# EAGLE library part ADA4096-4 (library Custom_Library)
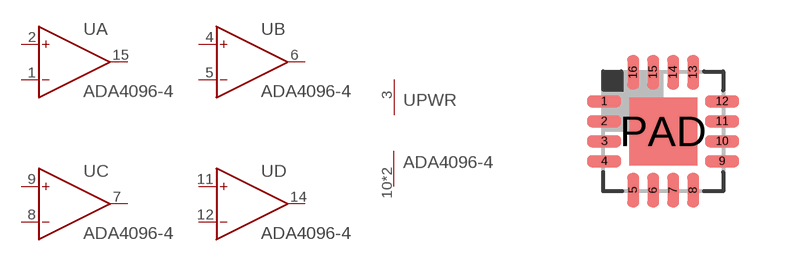
[diagram p8: symbol with the pads of QFN16; footprint QFN16]

Designator prefix -; gates A=OP B=OP C=OP D=OP PWR=PWR+-

## ADA4096-4  [QFN16]
1  A:IN-  in
2  A:IN+  in
3  PWR:V+  pwr
4  B:IN+  in
5  B:IN-  in
6  B:OUT  out
7  C:OUT  out
8  C:IN-  in
9  C:IN+  in
10  PWR:V-  pwr
11  D:IN+  in
12  D:IN-  in
14  D:OUT  out
15  A:OUT  out
PAD  PWR:V-  pwr

## Footprint QFN16 (pad centres in mm)
smd 0.85 x 0.3: 1 -1.357,0.71; 2 -1.357,0.21; 3 -1.357,-0.29; 4 -1.357,-0.79; 9 1.593,-0.79; 10 1.593,-0.29; 11 1.593,0.21; 12 1.593,0.71
smd 0.3 x 0.85: 5 -0.632,-1.515; 6 -0.133,-1.515; 7 0.367,-1.515; 8 0.868,-1.515; 13 0.868,1.435; 14 0.367,1.435; 15 -0.133,1.435; 16 -0.632,1.435
smd 1.7 x 1.7: PAD 0.117,-0.04